# EAGLE library part FM18W08-SGTR_LCSC (library lcsc_parts)
Description: 256Kbit 2.7V~5.5V Parallel Port (Parallel) SOIC-28-300mil Memory RoHS Manufacturer: Infineon/CYPRESS MPN: FM18W08-SGTR LCSC Part: C55945 Category: Memory Datasheet: https://datasheet.lcsc.com/datasheet/pdf/03fbadcdcaec43758f142afec81d0050.pdf?productCode=C55945
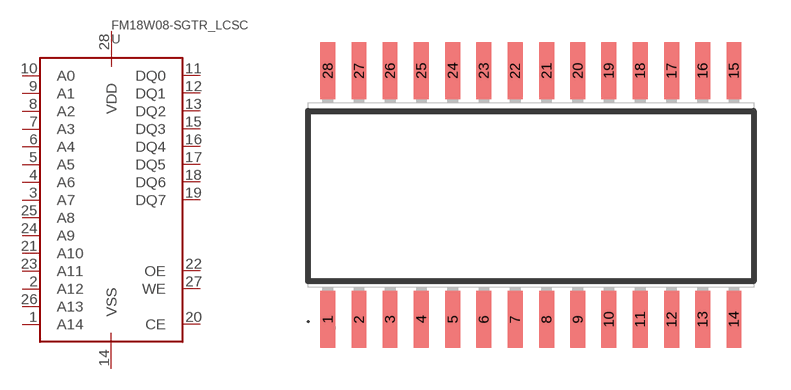
[diagram p0: symbol with the pads of SOIC-28_L18.0-W7.5-P1.27-LS10.3-BL; footprint SOIC-28_L18.0-W7.5-P1.27-LS10.3-BL]

Designator prefix U

## FM18W08-SGTR_LCSC (CATEGORY: Memory; CURRENT_SUPPLY: 12mA; DATASHEET: https://datasheet.lcsc.com/datasheet/pdf/03fbadcdcaec43758f142afec81d0050.pdf?productCode=C55945; DATA_RETENTION_TDR_YEAR: 151 years; DESCRIPTION: 256Kbit 2.7V~5.5V Parallel Port (Parallel) SOIC-28-300mil Memory RoHS; INTERFACE: Parallel Port (Parallel); LCSC_PART: C55945; LCSC_STOCK: 11; MANUFACTURER: Infineon/CYPRESS; MEMORY_SIZE: 256Kbit; MPN: FM18W08-SGTR; OPERATING_TEMPERATURE: -40℃~+85℃; PARTNO: FM18W08-SGTR; PRICING_1000: $10.5746/unit @ 1000; PRICING_50: $10.5746/unit @ 50; PROGRAM_ERASE_CYCLES: 100,000,000,000,000 Cycles; STANDBY_SUPPLY_CURRENT: 20uA; VOLTAGE_SUPPLY: 2.7V~5.5V)  [SOIC-28_L18.0-W7.5-P1.27-LS10.3-BL]
1  A14  in
2  A12  in
3  A7  in
4  A6  in
5  A5  in
6  A4  in
7  A3  in
8  A2  in
9  A1  in
10  A0  in
11  DQ0
12  DQ1
13  DQ2
14  VSS  pwr
15  DQ3
16  DQ4
17  DQ5
18  DQ6
19  DQ7
20  CE
21  A10  in
22  OE  in
23  A11  in
24  A9  in
25  A8  in
26  A13  in
27  WE  in
28  VDD  pwr

## Footprint SOIC-28_L18.0-W7.5-P1.27-LS10.3-BL (pad centres in mm)
smd 0.6 x 2.3: 1 -8.25,-5.06; 2 -6.98,-5.06; 3 -5.72,-5.06; 4 -4.45,-5.06; 5 -3.17,-5.06; 6 -1.91,-5.06; 7 -0.64,-5.06; 8 0.64,-5.06; 9 1.91,-5.06; 10 3.17,-5.06; 11 4.44,-5.06; 12 5.72,-5.06; 13 6.98,-5.06; 14 8.25,-5.06; 15 8.25,5.06; 16 6.98,5.06; 17 5.72,5.06; 18 4.44,5.06; 19 3.17,5.06; 20 1.91,5.06; 21 0.64,5.06; 22 -0.64,5.06; 23 -1.91,5.06; 24 -3.17,5.06; 25 -4.45,5.06; 26 -5.72,5.06; 27 -6.98,5.06; 28 -8.25,5.06